# Altium schematic symbol library Tony_Stanks_Own.SchLib: 5 symbols
Pins are listed as number, name and electrical type; pins without a type are passive.

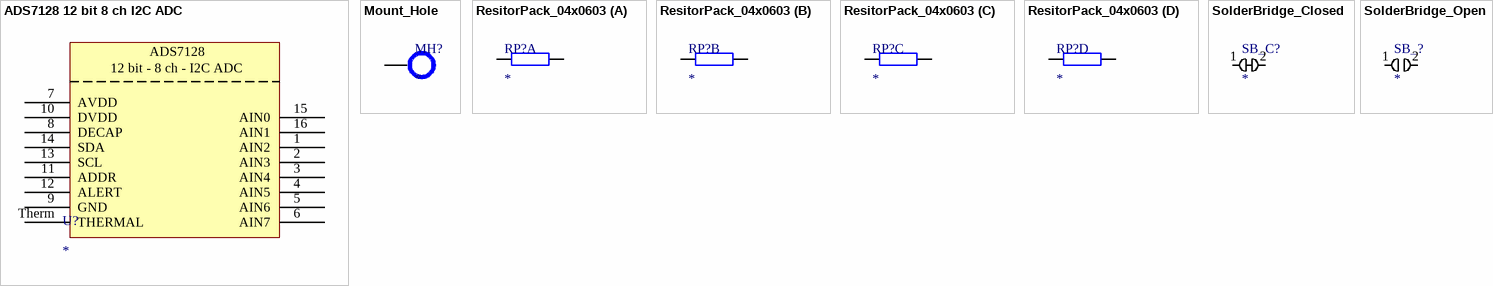
[diagram p0: symbols ADS7128 12 bit 8 ch I2C ADC to SolderBridge_Open]

## ADS7128 12 bit 8 ch I2C ADC
designator U?
footprint WQFN16_RTE_TEX
pins: 1 AIN2, 2 AIN3, 3 AIN4, 4 AIN5, 5 AIN6, 6 AIN7, 7 AVDD, 8 DECAP, 9 GND, 10 DVDD, 11 ADDR, 12 ALERT, 13 SCL, 14 SDA, 15 AIN0, 16 AIN1, Therm THERMAL
text: ADS7128; 12 bit - 8 ch - I2C ADC

## Mount_Hole
designator MH?
footprint MH_2.5MM (Mounting_Hole_2.5MM)
pins: MH

## ResitorPack_04x0603
designator RP?
A
footprint RES_YC164_3P2X1P6_YAG
part A pins: 1, 2
part B pins: 3, 4
part C pins: 5, 6
part D pins: 7, 8

## SolderBridge_Closed
designator SB_C?
footprint SolderBridge_Closed
pins: 1, 2

## SolderBridge_Open
designator SB_?
footprint SOLDERBRIDGE_OPEN
pins: 1, 2